# Altium schematic symbol library kmilo17pet-NSC_LDO.SchLib: 2675 symbols (part 61 of 65)
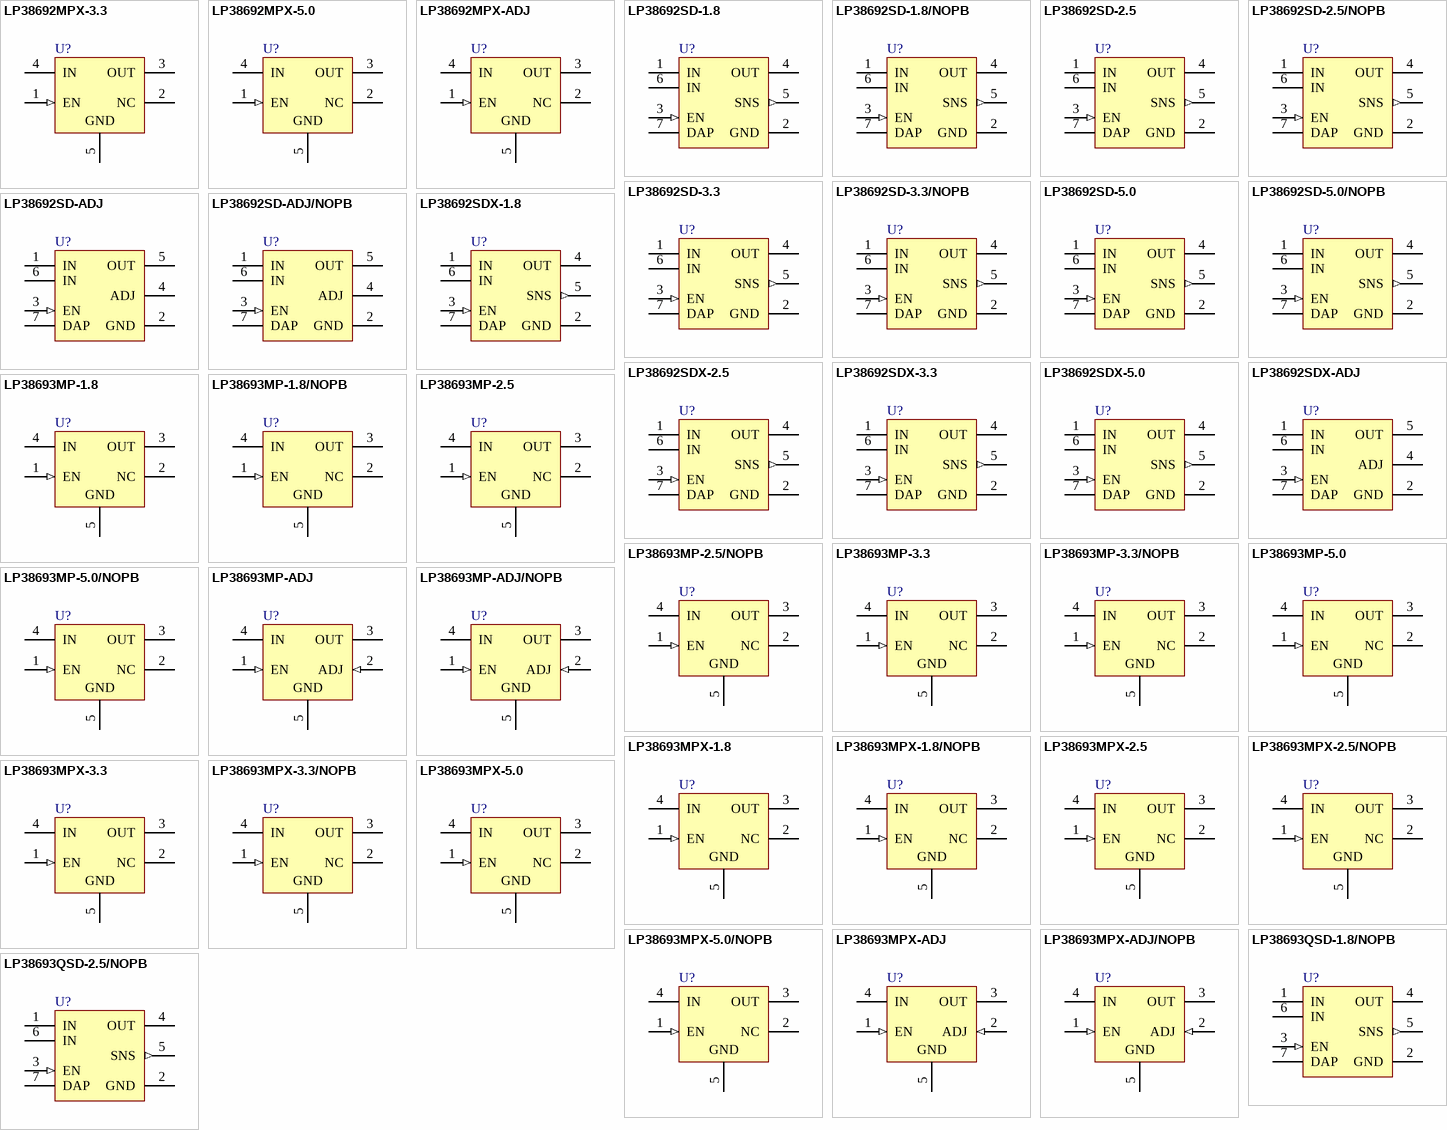
[diagram p127: symbols LP38692MPX-3.3 to LP38693QSD-2.5/NOPB]

## LP38693MPX-1.8
designator U?
500mA Low Dropout CMOS Linear Regulators Stable with Ceramic Output Capacitors, 5-pin SOT-223, 2000 Reel; PartNumber: LP38693MPX-1.8; Manufacturer: National Semiconductor; PackageTopMarking: XYTT*LJVB; PowerWise: Y; CompType: LDO IC; DatasheetVersion: Jun-2011; PackageVersion: revA, Jan-2000; PackageReference: MP05A; PackageDescription: Moldec SOT-223, 6.50 x 3.56 x 1.6mm Body, 5 Lead, 1.5mm Pitch; RoHS: N; PinCount: 5; High-Reliability: Y; Code_JEDEC: TO-261-AB; Code_IPC: SOT223-5; ComponentLink1Description: Manufacturer URL; ComponentLink1URL: http://www.national.com/; ComponentLink2Description: LP38693 Datasheet; ComponentLink2URL: http://www.national.com/ds/LP/LP38691.pdf; ComponentLink3Description: LP38693 Web Page; ComponentLink3URL: http://www.national.com/pf/LP/LP38693.html; ComponentLink4Description: MP05A Package Page; ComponentLink4URL: http://www.national.com/packaging/folders/mp05a.html
footprint MP05A_N (SOT223, 5-Leads, Body 6.5x3.5mm, Pitch 1.5mm, Lead Span 7mm, IPC Medium Density)
footprint MP05A_L (SOT223, 5-Leads, Body 6.5x3.5mm, Pitch 1.5mm, Lead Span 7mm, IPC High Density)
footprint MP05A_M (SOT223, 5-Leads, Body 6.5x3.5mm, Pitch 1.5mm, Lead Span 7mm, IPC Low Density)
pins: 1 EN (in), 2 NC, 3 OUT (power), 4 IN (power), 5 GND (power)

## LP38693MPX-1.8/NOPB
designator U?
500mA Low Dropout CMOS Linear Regulators Stable with Ceramic Output Capacitors, 5-pin SOT-223, 2000 Reel; PartNumber: LP38693MPX-1.8/NOPB; Manufacturer: National Semiconductor; PowerWise: Y; CompType: LDO IC; DatasheetVersion: Jun-2011; PackageVersion: revA, Jan-2000; PackageReference: MP05A; PackageDescription: Moldec SOT-223, 6.50 x 3.56 x 1.6mm Body, 5 Lead, 1.5mm Pitch; RoHS: Y; PinCount: 5; High-Reliability: Y; Code_JEDEC: TO-261-AB; Code_IPC: SOT223-5; ComponentLink1Description: Manufacturer URL; ComponentLink1URL: http://www.national.com/; ComponentLink2Description: LP38693 Datasheet; ComponentLink2URL: http://www.national.com/ds/LP/LP38691.pdf; ComponentLink3Description: LP38693 Web Page; ComponentLink3URL: http://www.national.com/pf/LP/LP38693.html; ComponentLink4Description: MP05A Package Page; ComponentLink4URL: http://www.national.com/packaging/folders/mp05a.html
footprint MP05A_N (SOT223, 5-Leads, Body 6.5x3.5mm, Pitch 1.5mm, Lead Span 7mm, IPC Medium Density)
footprint MP05A_L (SOT223, 5-Leads, Body 6.5x3.5mm, Pitch 1.5mm, Lead Span 7mm, IPC High Density)
footprint MP05A_M (SOT223, 5-Leads, Body 6.5x3.5mm, Pitch 1.5mm, Lead Span 7mm, IPC Low Density)
pins: 1 EN (in), 2 NC, 3 OUT (power), 4 IN (power), 5 GND (power)

## LP38693MPX-2.5
designator U?
500mA Low Dropout CMOS Linear Regulators Stable with Ceramic Output Capacitors, 5-pin SOT-223, 2000 Reel; PartNumber: LP38693MPX-2.5; Manufacturer: National Semiconductor; PackageTopMarking: XYTT*LJXB; PowerWise: Y; CompType: LDO IC; DatasheetVersion: Jun-2011; PackageVersion: revA, Jan-2000; PackageReference: MP05A; PackageDescription: Moldec SOT-223, 6.50 x 3.56 x 1.6mm Body, 5 Lead, 1.5mm Pitch; RoHS: N; PinCount: 5; High-Reliability: Y; Code_JEDEC: TO-261-AB; Code_IPC: SOT223-5; ComponentLink1Description: Manufacturer URL; ComponentLink1URL: http://www.national.com/; ComponentLink2Description: LP38693 Datasheet; ComponentLink2URL: http://www.national.com/ds/LP/LP38691.pdf; ComponentLink3Description: LP38693 Web Page; ComponentLink3URL: http://www.national.com/pf/LP/LP38693.html; ComponentLink4Description: MP05A Package Page; ComponentLink4URL: http://www.national.com/packaging/folders/mp05a.html
footprint MP05A_N (SOT223, 5-Leads, Body 6.5x3.5mm, Pitch 1.5mm, Lead Span 7mm, IPC Medium Density)
footprint MP05A_L (SOT223, 5-Leads, Body 6.5x3.5mm, Pitch 1.5mm, Lead Span 7mm, IPC High Density)
footprint MP05A_M (SOT223, 5-Leads, Body 6.5x3.5mm, Pitch 1.5mm, Lead Span 7mm, IPC Low Density)
pins: 1 EN (in), 2 NC, 3 OUT (power), 4 IN (power), 5 GND (power)

## LP38693MPX-2.5/NOPB
designator U?
500mA Low Dropout CMOS Linear Regulators Stable with Ceramic Output Capacitors, 5-pin SOT-223, 2000 Reel; PartNumber: LP38693MPX-2.5/NOPB; Manufacturer: National Semiconductor; PowerWise: Y; CompType: LDO IC; DatasheetVersion: Jun-2011; PackageVersion: revA, Jan-2000; PackageReference: MP05A; PackageDescription: Moldec SOT-223, 6.50 x 3.56 x 1.6mm Body, 5 Lead, 1.5mm Pitch; RoHS: Y; PinCount: 5; High-Reliability: Y; Code_JEDEC: TO-261-AB; Code_IPC: SOT223-5; ComponentLink1Description: Manufacturer URL; ComponentLink1URL: http://www.national.com/; ComponentLink2Description: LP38693 Datasheet; ComponentLink2URL: http://www.national.com/ds/LP/LP38691.pdf; ComponentLink3Description: LP38693 Web Page; ComponentLink3URL: http://www.national.com/pf/LP/LP38693.html; ComponentLink4Description: MP05A Package Page; ComponentLink4URL: http://www.national.com/packaging/folders/mp05a.html
footprint MP05A_N (SOT223, 5-Leads, Body 6.5x3.5mm, Pitch 1.5mm, Lead Span 7mm, IPC Medium Density)
footprint MP05A_L (SOT223, 5-Leads, Body 6.5x3.5mm, Pitch 1.5mm, Lead Span 7mm, IPC High Density)
footprint MP05A_M (SOT223, 5-Leads, Body 6.5x3.5mm, Pitch 1.5mm, Lead Span 7mm, IPC Low Density)
pins: 1 EN (in), 2 NC, 3 OUT (power), 4 IN (power), 5 GND (power)

## LP38693MPX-3.3
designator U?
500mA Low Dropout CMOS Linear Regulators Stable with Ceramic Output Capacitors, 5-pin SOT-223, 2000 Reel; PartNumber: LP38693MPX-3.3; Manufacturer: National Semiconductor; PackageTopMarking: XYTT*LJYB; PowerWise: Y; CompType: LDO IC; DatasheetVersion: Jun-2011; PackageVersion: revA, Jan-2000; PackageReference: MP05A; PackageDescription: Moldec SOT-223, 6.50 x 3.56 x 1.6mm Body, 5 Lead, 1.5mm Pitch; RoHS: N; PinCount: 5; High-Reliability: Y; Code_JEDEC: TO-261-AB; Code_IPC: SOT223-5; ComponentLink1Description: Manufacturer URL; ComponentLink1URL: http://www.national.com/; ComponentLink2Description: LP38693 Datasheet; ComponentLink2URL: http://www.national.com/ds/LP/LP38691.pdf; ComponentLink3Description: LP38693 Web Page; ComponentLink3URL: http://www.national.com/pf/LP/LP38693.html; ComponentLink4Description: MP05A Package Page; ComponentLink4URL: http://www.national.com/packaging/folders/mp05a.html
footprint MP05A_N (SOT223, 5-Leads, Body 6.5x3.5mm, Pitch 1.5mm, Lead Span 7mm, IPC Medium Density)
footprint MP05A_L (SOT223, 5-Leads, Body 6.5x3.5mm, Pitch 1.5mm, Lead Span 7mm, IPC High Density)
footprint MP05A_M (SOT223, 5-Leads, Body 6.5x3.5mm, Pitch 1.5mm, Lead Span 7mm, IPC Low Density)
pins: 1 EN (in), 2 NC, 3 OUT (power), 4 IN (power), 5 GND (power)

## LP38693MPX-3.3/NOPB
designator U?
500mA Low Dropout CMOS Linear Regulators Stable with Ceramic Output Capacitors, 5-pin SOT-223, 2000 Reel; PartNumber: LP38693MPX-3.3/NOPB; Manufacturer: National Semiconductor; PowerWise: Y; CompType: LDO IC; DatasheetVersion: Jun-2011; PackageVersion: revA, Jan-2000; PackageReference: MP05A; PackageDescription: Moldec SOT-223, 6.50 x 3.56 x 1.6mm Body, 5 Lead, 1.5mm Pitch; RoHS: Y; PinCount: 5; High-Reliability: Y; Code_JEDEC: TO-261-AB; Code_IPC: SOT223-5; ComponentLink1Description: Manufacturer URL; ComponentLink1URL: http://www.national.com/; ComponentLink2Description: LP38693 Datasheet; ComponentLink2URL: http://www.national.com/ds/LP/LP38691.pdf; ComponentLink3Description: LP38693 Web Page; ComponentLink3URL: http://www.national.com/pf/LP/LP38693.html; ComponentLink4Description: MP05A Package Page; ComponentLink4URL: http://www.national.com/packaging/folders/mp05a.html
footprint MP05A_N (SOT223, 5-Leads, Body 6.5x3.5mm, Pitch 1.5mm, Lead Span 7mm, IPC Medium Density)
footprint MP05A_L (SOT223, 5-Leads, Body 6.5x3.5mm, Pitch 1.5mm, Lead Span 7mm, IPC High Density)
footprint MP05A_M (SOT223, 5-Leads, Body 6.5x3.5mm, Pitch 1.5mm, Lead Span 7mm, IPC Low Density)
pins: 1 EN (in), 2 NC, 3 OUT (power), 4 IN (power), 5 GND (power)

## LP38693MPX-5.0
designator U?
500mA Low Dropout CMOS Linear Regulators Stable with Ceramic Output Capacitors, 5-pin SOT-223, 2000 Reel; PartNumber: LP38693MPX-5.0; Manufacturer: National Semiconductor; PackageTopMarking: XYTT*LJZB; PowerWise: N; CompType: LDO IC; High-Reliability: Y; DatasheetVersion: Jun-2011; PackageVersion: revA, Jan-2000; PackageReference: MP05A; PackageDescription: Moldec SOT-223, 6.50 x 3.56 x 1.6mm Body, 5 Lead, 1.5mm Pitch; RoHS: N; PinCount: 5; Code_JEDEC: TO-261-AB; Code_IPC: SOT223-5; ComponentLink1Description: Manufacturer URL; ComponentLink1URL: http://www.national.com/; ComponentLink2Description: LP38693 Datasheet; ComponentLink2URL: http://www.national.com/ds/LP/LP38691.pdf; ComponentLink3Description: LP38693 Web Page; ComponentLink3URL: http://www.national.com/pf/LP/LP38693.html; ComponentLink4Description: MP05A Package Page; ComponentLink4URL: http://www.national.com/packaging/folders/mp05a.html
footprint MP05A_N (SOT223, 5-Leads, Body 6.5x3.5mm, Pitch 1.5mm, Lead Span 7mm, IPC Medium Density)
footprint MP05A_L (SOT223, 5-Leads, Body 6.5x3.5mm, Pitch 1.5mm, Lead Span 7mm, IPC High Density)
footprint MP05A_M (SOT223, 5-Leads, Body 6.5x3.5mm, Pitch 1.5mm, Lead Span 7mm, IPC Low Density)
pins: 1 EN (in), 2 NC, 3 OUT (power), 4 IN (power), 5 GND (power)

## LP38693MPX-5.0/NOPB
designator U?
500mA Low Dropout CMOS Linear Regulators Stable with Ceramic Output Capacitors, 5-pin SOT-223, Pb-Free, 2000 Reel; PartNumber: LP38693MPX-5.0/NOPB; Manufacturer: National Semiconductor; PackageTopMarking: XYTT*LJZB; PowerWise: N; CompType: LDO IC; High-Reliability: Y; DatasheetVersion: Jun-2011; PackageVersion: revA, Jan-2000; PackageReference: MP05A; PackageDescription: Moldec SOT-223, 6.50 x 3.56 x 1.6mm Body, 5 Lead, 1.5mm Pitch; RoHS: Y; PinCount: 5; Code_JEDEC: TO-261-AB; Code_IPC: SOT223-5; ComponentLink1Description: Manufacturer URL; ComponentLink1URL: http://www.national.com/; ComponentLink2Description: LP38693 Datasheet; ComponentLink2URL: http://www.national.com/ds/LP/LP38691.pdf; ComponentLink3Description: LP38693 Web Page; ComponentLink3URL: http://www.national.com/pf/LP/LP38693.html; ComponentLink4Description: MP05A Package Page; ComponentLink4URL: http://www.national.com/packaging/folders/mp05a.html
footprint MP05A_N (SOT223, 5-Leads, Body 6.5x3.5mm, Pitch 1.5mm, Lead Span 7mm, IPC Medium Density)
footprint MP05A_L (SOT223, 5-Leads, Body 6.5x3.5mm, Pitch 1.5mm, Lead Span 7mm, IPC High Density)
footprint MP05A_M (SOT223, 5-Leads, Body 6.5x3.5mm, Pitch 1.5mm, Lead Span 7mm, IPC Low Density)
pins: 1 EN (in), 2 NC, 3 OUT (power), 4 IN (power), 5 GND (power)

## LP38693MPX-ADJ
designator U?
500mA Low Dropout CMOS Linear Regulators with Adjustable Output Stable with Ceramic Output Capacitors, 5-pin SOT-223, 2000 Reel; PartNumber: LP38693MPX-ADJ; Manufacturer: National Semiconductor; PackageTopMarking: XYTT*LJUB; PowerWise: Y; CompType: LDO IC; DatasheetVersion: Jun-2011; PackageVersion: revA, Jan-2000; PackageReference: MP05A; PackageDescription: Moldec SOT-223, 6.50 x 3.56 x 1.6mm Body, 5 Lead, 1.5mm Pitch; RoHS: N; PinCount: 5; High-Reliability: Y; Code_JEDEC: TO-261-AB; Code_IPC: SOT223-5; ComponentLink1Description: Manufacturer URL; ComponentLink1URL: http://www.national.com/; ComponentLink2Description: LP38693 Datasheet; ComponentLink2URL: http://www.national.com/ds/LP/LP38691-ADJ.pdf; ComponentLink3Description: LP38693 Web Page; ComponentLink3URL: http://www.national.com/pf/LP/LP38693.html; ComponentLink4Description: MP05A Package Page; ComponentLink4URL: http://www.national.com/packaging/folders/mp05a.html
footprint MP05A_N (SOT223, 5-Leads, Body 6.5x3.5mm, Pitch 1.5mm, Lead Span 7mm, IPC Medium Density)
footprint MP05A_L (SOT223, 5-Leads, Body 6.5x3.5mm, Pitch 1.5mm, Lead Span 7mm, IPC High Density)
footprint MP05A_M (SOT223, 5-Leads, Body 6.5x3.5mm, Pitch 1.5mm, Lead Span 7mm, IPC Low Density)
pins: 1 EN (in), 2 ADJ (in), 3 OUT (power), 4 IN (power), 5 GND (power)

## LP38693MPX-ADJ/NOPB
designator U?
500mA Low Dropout CMOS Linear Regulators with Adjustable Output Stable with Ceramic Output Capacitors, 5-pin SOT-223, 2000 Reel; PartNumber: LP38693MPX-ADJ/NOPB; Manufacturer: National Semiconductor; PowerWise: Y; CompType: LDO IC; DatasheetVersion: Jun-2011; PackageVersion: revA, Jan-2000; PackageReference: MP05A; PackageDescription: Moldec SOT-223, 6.50 x 3.56 x 1.6mm Body, 5 Lead, 1.5mm Pitch; RoHS: Y; PinCount: 5; High-Reliability: Y; Code_JEDEC: TO-261-AB; Code_IPC: SOT223-5; ComponentLink1Description: Manufacturer URL; ComponentLink1URL: http://www.national.com/; ComponentLink2Description: LP38693 Datasheet; ComponentLink2URL: http://www.national.com/ds/LP/LP38691-ADJ.pdf; ComponentLink3Description: LP38693 Web Page; ComponentLink3URL: http://www.national.com/pf/LP/LP38693.html; ComponentLink4Description: MP05A Package Page; ComponentLink4URL: http://www.national.com/packaging/folders/mp05a.html
footprint MP05A_N (SOT223, 5-Leads, Body 6.5x3.5mm, Pitch 1.5mm, Lead Span 7mm, IPC Medium Density)
footprint MP05A_L (SOT223, 5-Leads, Body 6.5x3.5mm, Pitch 1.5mm, Lead Span 7mm, IPC High Density)
footprint MP05A_M (SOT223, 5-Leads, Body 6.5x3.5mm, Pitch 1.5mm, Lead Span 7mm, IPC Low Density)
pins: 1 EN (in), 2 ADJ (in), 3 OUT (power), 4 IN (power), 5 GND (power)

## LP38693QSD-1.8/NOPB
designator U?
500mA Low Dropout CMOS Linear Regulators Stable with Ceramic Output Capacitors, 6-pin LLP, 1000 Reel; PartNumber: LP38693QSD-1.8/NOPB; Manufacturer: National Semiconductor; PackageTopMarking: ZXYTT*L260B; PowerWise: N; CompType: LDO IC; High-Reliability: Y; DatasheetVersion: Jun-2011; PackageVersion: revA, Jul-2003; PackageReference: SDE06A; PackageDescription: LLP, Plastic, Dual, 3 x 3 x 0.8mm Body, 6 Lead, 0.95mm Pitch, No Pullback; RoHS: Y; PinCount: 6; ComponentLink1Description: Manufacturer URL; ComponentLink1URL: http://www.national.com/; ComponentLink2Description: LP38693 Datasheet; ComponentLink2URL: http://www.national.com/ds/LP/LP38691.pdf; ComponentLink3Description: LP38693 Web Page; ComponentLink3URL: http://www.national.com/pf/LP/LP38693.html; ComponentLink4Description: SDE06A Package Page; ComponentLink4URL: http://www.national.com/packaging/folders/sde06a.html
footprint SDE06A_full (SON, 6-Leads, Body 3x3 mm, Pitch 0.95mm, Full Paste, NSC Recommended)
footprint SDE06A_quad (SON, 6-Leads, Body 3x3 mm, Pitch 0.95mm, Quad Paste, NSC Recommended)
pins: 1 IN (power), 2 GND (power), 3 EN (in), 4 OUT (power), 5 SNS (out), 6 IN (power), 7 DAP (power)

## LP38693QSD-2.5/NOPB
designator U?
500mA Low Dropout CMOS Linear Regulators Stable with Ceramic Output Capacitors, 6-pin LLP, 1000 Reel; PartNumber: LP38693QSD-2.5/NOPB; Manufacturer: National Semiconductor; PackageTopMarking: ZXYTT*L261B; PowerWise: N; CompType: LDO IC; High-Reliability: Y; DatasheetVersion: Jun-2011; PackageVersion: revA, Jul-2003; PackageReference: SDE06A; PackageDescription: LLP, Plastic, Dual, 3 x 3 x 0.8mm Body, 6 Lead, 0.95mm Pitch, No Pullback; RoHS: Y; PinCount: 6; ComponentLink1Description: Manufacturer URL; ComponentLink1URL: http://www.national.com/; ComponentLink2Description: LP38693 Datasheet; ComponentLink2URL: http://www.national.com/ds/LP/LP38691.pdf; ComponentLink3Description: LP38693 Web Page; ComponentLink3URL: http://www.national.com/pf/LP/LP38693.html; ComponentLink4Description: SDE06A Package Page; ComponentLink4URL: http://www.national.com/packaging/folders/sde06a.html
footprint SDE06A_full (SON, 6-Leads, Body 3x3 mm, Pitch 0.95mm, Full Paste, NSC Recommended)
footprint SDE06A_quad (SON, 6-Leads, Body 3x3 mm, Pitch 0.95mm, Quad Paste, NSC Recommended)
pins: 1 IN (power), 2 GND (power), 3 EN (in), 4 OUT (power), 5 SNS (out), 6 IN (power), 7 DAP (power)

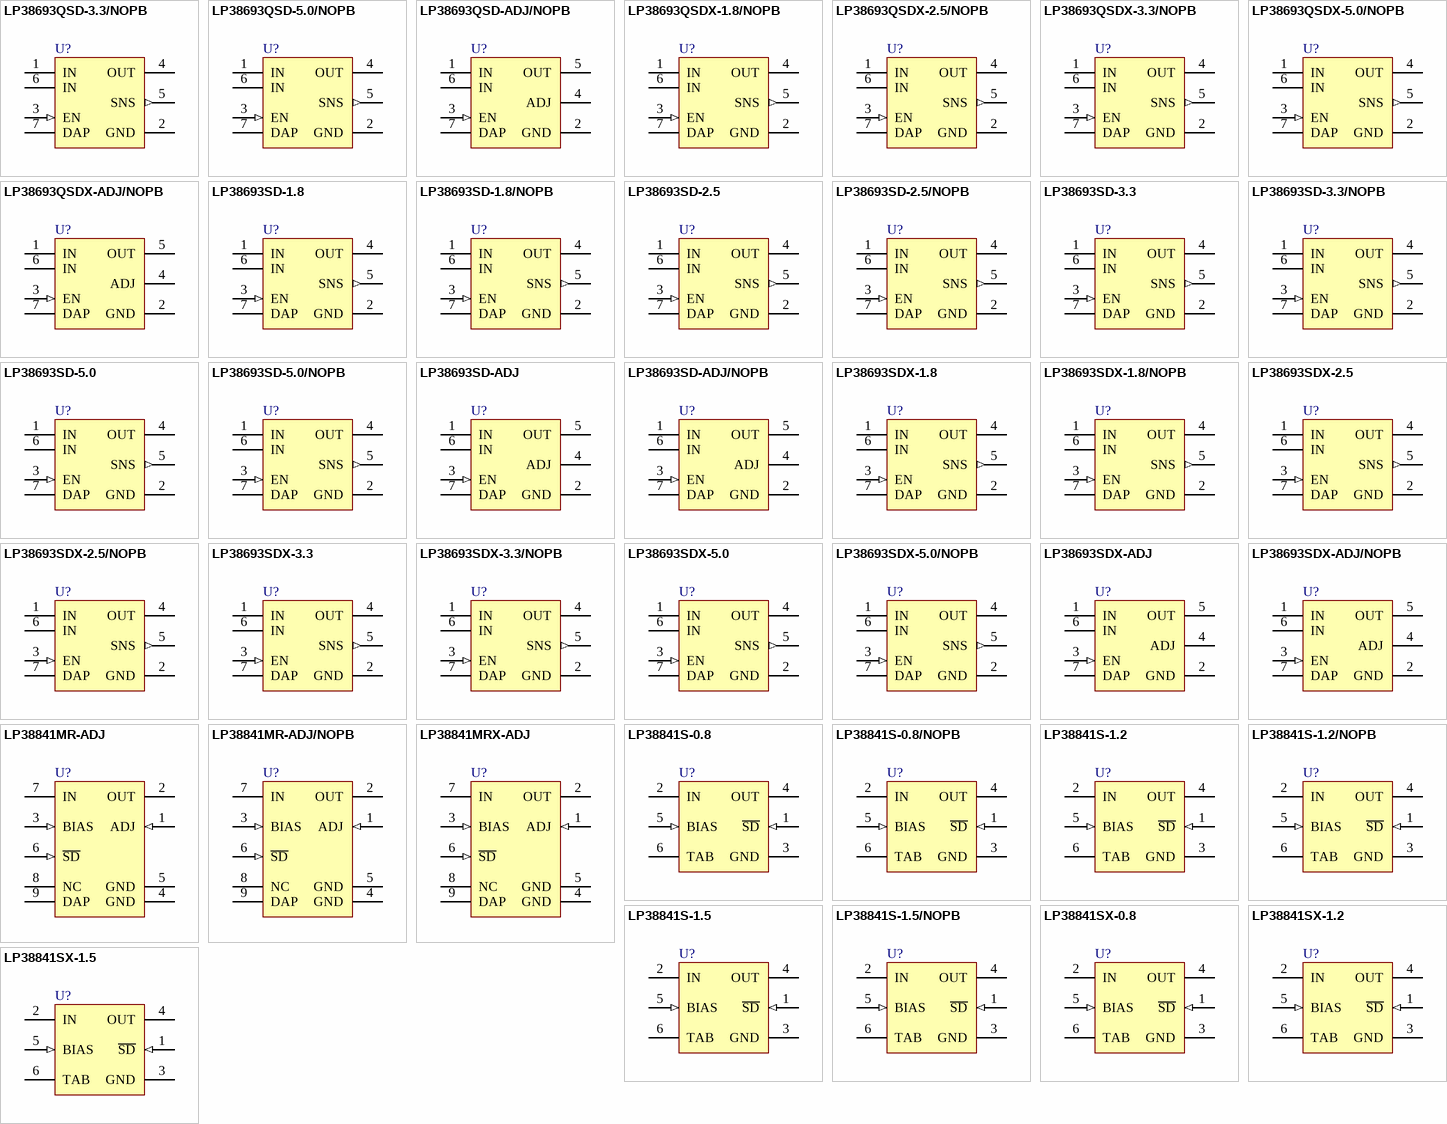
[diagram p63: symbols LP38693QSD-3.3/NOPB to LP38841SX-1.5]

## LP38693QSD-3.3/NOPB
designator U?
500mA Low Dropout CMOS Linear Regulators Stable with Ceramic Output Capacitors, 6-pin LLP, 1000 Reel; PartNumber: LP38693QSD-3.3/NOPB; Manufacturer: National Semiconductor; PackageTopMarking: ZXYTT*L262B; PowerWise: N; CompType: LDO IC; High-Reliability: Y; DatasheetVersion: Jun-2011; PackageVersion: revA, Jul-2003; PackageReference: SDE06A; PackageDescription: LLP, Plastic, Dual, 3 x 3 x 0.8mm Body, 6 Lead, 0.95mm Pitch, No Pullback; RoHS: Y; PinCount: 6; ComponentLink1Description: Manufacturer URL; ComponentLink1URL: http://www.national.com/; ComponentLink2Description: LP38693 Datasheet; ComponentLink2URL: http://www.national.com/ds/LP/LP38691.pdf; ComponentLink3Description: LP38693 Web Page; ComponentLink3URL: http://www.national.com/pf/LP/LP38693.html; ComponentLink4Description: SDE06A Package Page; ComponentLink4URL: http://www.national.com/packaging/folders/sde06a.html
footprint SDE06A_full (SON, 6-Leads, Body 3x3 mm, Pitch 0.95mm, Full Paste, NSC Recommended)
footprint SDE06A_quad (SON, 6-Leads, Body 3x3 mm, Pitch 0.95mm, Quad Paste, NSC Recommended)
pins: 1 IN (power), 2 GND (power), 3 EN (in), 4 OUT (power), 5 SNS (out), 6 IN (power), 7 DAP (power)

## LP38693QSD-5.0/NOPB
designator U?
500mA Low Dropout CMOS Linear Regulators Stable with Ceramic Output Capacitors, 6-pin LLP, 1000 Reel; PartNumber: LP38693QSD-5.0/NOPB; Manufacturer: National Semiconductor; PackageTopMarking: ZXYTT*L263B; PowerWise: N; CompType: LDO IC; High-Reliability: Y; DatasheetVersion: Jun-2011; PackageVersion: revA, Jul-2003; PackageReference: SDE06A; PackageDescription: LLP, Plastic, Dual, 3 x 3 x 0.8mm Body, 6 Lead, 0.95mm Pitch, No Pullback; RoHS: Y; PinCount: 6; ComponentLink1Description: Manufacturer URL; ComponentLink1URL: http://www.national.com/; ComponentLink2Description: LP38693 Datasheet; ComponentLink2URL: http://www.national.com/ds/LP/LP38691.pdf; ComponentLink3Description: LP38693 Web Page; ComponentLink3URL: http://www.national.com/pf/LP/LP38693.html; ComponentLink4Description: SDE06A Package Page; ComponentLink4URL: http://www.national.com/packaging/folders/sde06a.html
footprint SDE06A_full (SON, 6-Leads, Body 3x3 mm, Pitch 0.95mm, Full Paste, NSC Recommended)
footprint SDE06A_quad (SON, 6-Leads, Body 3x3 mm, Pitch 0.95mm, Quad Paste, NSC Recommended)
pins: 1 IN (power), 2 GND (power), 3 EN (in), 4 OUT (power), 5 SNS (out), 6 IN (power), 7 DAP (power)

## LP38693QSD-ADJ/NOPB
designator U?
500mA Low Dropout CMOS Linear Regulators with Adjustable Output Stable with Ceramic Output Capacitors, 6-pin LLP, 1000 Reel; PartNumber: LP38693QSD-ADJ/NOPB; Manufacturer: National Semiconductor; PackageTopMarking: ZXYTT*LLRB; PowerWise: N; CompType: LDO IC; High-Reliability: Y; DatasheetVersion: Jun-2011; PackageVersion: revA, Jul-2003; PackageReference: SDE06A; PackageDescription: LLP, Plastic, Dual, 3 x 3 x 0.8mm Body, 6 Lead, 0.95mm Pitch, No Pullback; RoHS: Y; PinCount: 6; ComponentLink1Description: Manufacturer URL; ComponentLink1URL: http://www.national.com/; ComponentLink2Description: LP38693 Datasheet; ComponentLink2URL: http://www.national.com/ds/LP/LP38691-ADJ.pdf; ComponentLink3Description: LP38693 Web Page; ComponentLink3URL: http://www.national.com/pf/LP/LP38693.html; ComponentLink4Description: SDE06A Package Page; ComponentLink4URL: http://www.national.com/packaging/folders/sde06a.html
footprint SDE06A_full (SON, 6-Leads, Body 3x3 mm, Pitch 0.95mm, Full Paste, NSC Recommended)
footprint SDE06A_quad (SON, 6-Leads, Body 3x3 mm, Pitch 0.95mm, Quad Paste, NSC Recommended)
pins: 1 IN (power), 2 GND (power), 3 EN (in), 4 ADJ, 5 OUT (power), 6 IN (power), 7 DAP (power)

## LP38693QSDX-1.8/NOPB
designator U?
500mA Low Dropout CMOS Linear Regulators Stable with Ceramic Output Capacitors, 6-pin LLP, 4500 Reel; PartNumber: LP38693QSDX-1.8/NOPB; Manufacturer: National Semiconductor; PackageTopMarking: ZXYTT*L260B; PowerWise: N; CompType: LDO IC; High-Reliability: Y; DatasheetVersion: Jun-2011; PackageVersion: revA, Jul-2003; PackageReference: SDE06A; PackageDescription: LLP, Plastic, Dual, 3 x 3 x 0.8mm Body, 6 Lead, 0.95mm Pitch, No Pullback; RoHS: Y; PinCount: 6; ComponentLink1Description: Manufacturer URL; ComponentLink1URL: http://www.national.com/; ComponentLink2Description: LP38693 Datasheet; ComponentLink2URL: http://www.national.com/ds/LP/LP38691.pdf; ComponentLink3Description: LP38693 Web Page; ComponentLink3URL: http://www.national.com/pf/LP/LP38693.html; ComponentLink4Description: SDE06A Package Page; ComponentLink4URL: http://www.national.com/packaging/folders/sde06a.html
footprint SDE06A_full (SON, 6-Leads, Body 3x3 mm, Pitch 0.95mm, Full Paste, NSC Recommended)
footprint SDE06A_quad (SON, 6-Leads, Body 3x3 mm, Pitch 0.95mm, Quad Paste, NSC Recommended)
pins: 1 IN (power), 2 GND (power), 3 EN (in), 4 OUT (power), 5 SNS (out), 6 IN (power), 7 DAP (power)

## LP38693QSDX-2.5/NOPB
designator U?
500mA Low Dropout CMOS Linear Regulators Stable with Ceramic Output Capacitors, 6-pin LLP, 4500 Reel; PartNumber: LP38693QSDX-2.5/NOPB; Manufacturer: National Semiconductor; PackageTopMarking: ZXYTT*L261B; PowerWise: N; CompType: LDO IC; High-Reliability: Y; DatasheetVersion: Jun-2011; PackageVersion: revA, Jul-2003; PackageReference: SDE06A; PackageDescription: LLP, Plastic, Dual, 3 x 3 x 0.8mm Body, 6 Lead, 0.95mm Pitch, No Pullback; RoHS: Y; PinCount: 6; ComponentLink1Description: Manufacturer URL; ComponentLink1URL: http://www.national.com/; ComponentLink2Description: LP38693 Datasheet; ComponentLink2URL: http://www.national.com/ds/LP/LP38691.pdf; ComponentLink3Description: LP38693 Web Page; ComponentLink3URL: http://www.national.com/pf/LP/LP38693.html; ComponentLink4Description: SDE06A Package Page; ComponentLink4URL: http://www.national.com/packaging/folders/sde06a.html
footprint SDE06A_full (SON, 6-Leads, Body 3x3 mm, Pitch 0.95mm, Full Paste, NSC Recommended)
footprint SDE06A_quad (SON, 6-Leads, Body 3x3 mm, Pitch 0.95mm, Quad Paste, NSC Recommended)
pins: 1 IN (power), 2 GND (power), 3 EN (in), 4 OUT (power), 5 SNS (out), 6 IN (power), 7 DAP (power)

## LP38693QSDX-3.3/NOPB
designator U?
500mA Low Dropout CMOS Linear Regulators Stable with Ceramic Output Capacitors, 6-pin LLP, 4500 Reel; PartNumber: LP38693QSDX-3.3/NOPB; Manufacturer: National Semiconductor; PackageTopMarking: ZXYTT*L262B; PowerWise: N; CompType: LDO IC; High-Reliability: Y; DatasheetVersion: Jun-2011; PackageVersion: revA, Jul-2003; PackageReference: SDE06A; PackageDescription: LLP, Plastic, Dual, 3 x 3 x 0.8mm Body, 6 Lead, 0.95mm Pitch, No Pullback; RoHS: Y; PinCount: 6; ComponentLink1Description: Manufacturer URL; ComponentLink1URL: http://www.national.com/; ComponentLink2Description: LP38693 Datasheet; ComponentLink2URL: http://www.national.com/ds/LP/LP38691.pdf; ComponentLink3Description: LP38693 Web Page; ComponentLink3URL: http://www.national.com/pf/LP/LP38693.html; ComponentLink4Description: SDE06A Package Page; ComponentLink4URL: http://www.national.com/packaging/folders/sde06a.html
footprint SDE06A_full (SON, 6-Leads, Body 3x3 mm, Pitch 0.95mm, Full Paste, NSC Recommended)
footprint SDE06A_quad (SON, 6-Leads, Body 3x3 mm, Pitch 0.95mm, Quad Paste, NSC Recommended)
pins: 1 IN (power), 2 GND (power), 3 EN (in), 4 OUT (power), 5 SNS (out), 6 IN (power), 7 DAP (power)

## LP38693QSDX-5.0/NOPB
designator U?
500mA Low Dropout CMOS Linear Regulators Stable with Ceramic Output Capacitors, 6-pin LLP, 4500 Reel; PartNumber: LP38693QSDX-5.0/NOPB; Manufacturer: National Semiconductor; PackageTopMarking: ZXYTT*L263B; PowerWise: N; CompType: LDO IC; High-Reliability: Y; DatasheetVersion: Jun-2011; PackageVersion: revA, Jul-2003; PackageReference: SDE06A; PackageDescription: LLP, Plastic, Dual, 3 x 3 x 0.8mm Body, 6 Lead, 0.95mm Pitch, No Pullback; RoHS: Y; PinCount: 6; ComponentLink1Description: Manufacturer URL; ComponentLink1URL: http://www.national.com/; ComponentLink2Description: LP38693 Datasheet; ComponentLink2URL: http://www.national.com/ds/LP/LP38691.pdf; ComponentLink3Description: LP38693 Web Page; ComponentLink3URL: http://www.national.com/pf/LP/LP38693.html; ComponentLink4Description: SDE06A Package Page; ComponentLink4URL: http://www.national.com/packaging/folders/sde06a.html
footprint SDE06A_full (SON, 6-Leads, Body 3x3 mm, Pitch 0.95mm, Full Paste, NSC Recommended)
footprint SDE06A_quad (SON, 6-Leads, Body 3x3 mm, Pitch 0.95mm, Quad Paste, NSC Recommended)
pins: 1 IN (power), 2 GND (power), 3 EN (in), 4 OUT (power), 5 SNS (out), 6 IN (power), 7 DAP (power)

## LP38693QSDX-ADJ/NOPB
designator U?
500mA Low Dropout CMOS Linear Regulators with Adjustable Output Stable with Ceramic Output Capacitors, 6-pin LLP, 4500 Reel; PartNumber: LP38693QSDX-ADJ/NOPB; Manufacturer: National Semiconductor; PackageTopMarking: ZXYTT*LLRB; PowerWise: N; CompType: LDO IC; High-Reliability: Y; DatasheetVersion: Jun-2011; PackageVersion: revA, Jul-2003; PackageReference: SDE06A; PackageDescription: LLP, Plastic, Dual, 3 x 3 x 0.8mm Body, 6 Lead, 0.95mm Pitch, No Pullback; RoHS: Y; PinCount: 6; ComponentLink1Description: Manufacturer URL; ComponentLink1URL: http://www.national.com/; ComponentLink2Description: LP38693 Datasheet; ComponentLink2URL: http://www.national.com/ds/LP/LP38691-ADJ.pdf; ComponentLink3Description: LP38693 Web Page; ComponentLink3URL: http://www.national.com/pf/LP/LP38693.html; ComponentLink4Description: SDE06A Package Page; ComponentLink4URL: http://www.national.com/packaging/folders/sde06a.html
footprint SDE06A_full (SON, 6-Leads, Body 3x3 mm, Pitch 0.95mm, Full Paste, NSC Recommended)
footprint SDE06A_quad (SON, 6-Leads, Body 3x3 mm, Pitch 0.95mm, Quad Paste, NSC Recommended)
pins: 1 IN (power), 2 GND (power), 3 EN (in), 4 ADJ, 5 OUT (power), 6 IN (power), 7 DAP (power)

## LP38693SD-1.8
designator U?
500mA Low Dropout CMOS Linear Regulators, 6-pin LLP, 1000 Reel; PartNumber: LP38693SD-1.8; Manufacturer: National Semiconductor; PackageTopMarking: ZXYTT*L128B; PowerWise: Y; CompType: LDO IC; DatasheetVersion: Jun-2011; PackageVersion: revA, Jul-2003; PackageReference: SDE06A; PackageDescription: LLP, Plastic, Dual, 3 x 3 x 0.8mm Body, 6 Lead, 0.95mm Pitch, No Pullback; RoHS: N; PinCount: 6; High-Reliability: Y; ComponentLink1Description: Manufacturer URL; ComponentLink1URL: http://www.national.com/; ComponentLink2Description: LP38693 Datasheet; ComponentLink2URL: http://www.national.com/ds/LP/LP38691.pdf; ComponentLink3Description: LP38693 Web Page; ComponentLink3URL: http://www.national.com/pf/LP/LP38693.html; ComponentLink4Description: SDE06A Package Page; ComponentLink4URL: http://www.national.com/packaging/folders/sde06a.html
footprint SDE06A_full (SON, 6-Leads, Body 3x3 mm, Pitch 0.95mm, Full Paste, NSC Recommended)
footprint SDE06A_quad (SON, 6-Leads, Body 3x3 mm, Pitch 0.95mm, Quad Paste, NSC Recommended)
pins: 1 IN (power), 2 GND (power), 3 EN (in), 4 OUT (power), 5 SNS (out), 6 IN (power), 7 DAP (power)

## LP38693SD-1.8/NOPB
designator U?
500mA Low Dropout CMOS Linear Regulators Stable with Ceramic Output Capacitors, 6-pin LLP, Pb-Free, 1000 Reel; PartNumber: LP38693SD-1.8/NOPB; Manufacturer: National Semiconductor; PackageTopMarking: ZXYTT*L128B; PowerWise: Y; CompType: LDO IC; DatasheetVersion: Jun-2011; PackageVersion: revA, Jul-2003; PackageReference: SDE06A; PackageDescription: LLP, Plastic, Dual, 3 x 3 x 0.8mm Body, 6 Lead, 0.95mm Pitch, No Pullback; RoHS: Y; PinCount: 6; High-Reliability: Y; ComponentLink1Description: Manufacturer URL; ComponentLink1URL: http://www.national.com/; ComponentLink2Description: LP38693 Datasheet; ComponentLink2URL: http://www.national.com/ds/LP/LP38691.pdf; ComponentLink3Description: LP38693 Web Page; ComponentLink3URL: http://www.national.com/pf/LP/LP38693.html; ComponentLink4Description: SDE06A Package Page; ComponentLink4URL: http://www.national.com/packaging/folders/sde06a.html
footprint SDE06A_full (SON, 6-Leads, Body 3x3 mm, Pitch 0.95mm, Full Paste, NSC Recommended)
footprint SDE06A_quad (SON, 6-Leads, Body 3x3 mm, Pitch 0.95mm, Quad Paste, NSC Recommended)
pins: 1 IN (power), 2 GND (power), 3 EN (in), 4 OUT (power), 5 SNS (out), 6 IN (power), 7 DAP (power)

## LP38693SD-2.5
designator U?
500mA Low Dropout CMOS Linear Regulators, 6-pin LLP, 1000 Reel; PartNumber: LP38693SD-2.5; Manufacturer: National Semiconductor; PackageTopMarking: ZXYTT*L129B; PowerWise: Y; CompType: LDO IC; DatasheetVersion: Jun-2011; PackageVersion: revA, Jul-2003; PackageReference: SDE06A; PackageDescription: LLP, Plastic, Dual, 3 x 3 x 0.8mm Body, 6 Lead, 0.95mm Pitch, No Pullback; RoHS: N; PinCount: 6; High-Reliability: Y; ComponentLink1Description: Manufacturer URL; ComponentLink1URL: http://www.national.com/; ComponentLink2Description: LP38693 Datasheet; ComponentLink2URL: http://www.national.com/ds/LP/LP38691.pdf; ComponentLink3Description: LP38693 Web Page; ComponentLink3URL: http://www.national.com/pf/LP/LP38693.html; ComponentLink4Description: SDE06A Package Page; ComponentLink4URL: http://www.national.com/packaging/folders/sde06a.html
footprint SDE06A_full (SON, 6-Leads, Body 3x3 mm, Pitch 0.95mm, Full Paste, NSC Recommended)
footprint SDE06A_quad (SON, 6-Leads, Body 3x3 mm, Pitch 0.95mm, Quad Paste, NSC Recommended)
pins: 1 IN (power), 2 GND (power), 3 EN (in), 4 OUT (power), 5 SNS (out), 6 IN (power), 7 DAP (power)

## LP38693SD-2.5/NOPB
designator U?
500mA Low Dropout CMOS Linear Regulators Stable with Ceramic Output Capacitors, 6-pin LLP, Pb-Free, 1000 Reel; PartNumber: LP38693SD-2.5/NOPB; Manufacturer: National Semiconductor; PackageTopMarking: ZXYTT*L129B; PowerWise: Y; CompType: LDO IC; DatasheetVersion: Jun-2011; PackageVersion: revA, Jul-2003; PackageReference: SDE06A; PackageDescription: LLP, Plastic, Dual, 3 x 3 x 0.8mm Body, 6 Lead, 0.95mm Pitch, No Pullback; RoHS: Y; PinCount: 6; High-Reliability: Y; ComponentLink1Description: Manufacturer URL; ComponentLink1URL: http://www.national.com/; ComponentLink2Description: LP38693 Datasheet; ComponentLink2URL: http://www.national.com/ds/LP/LP38691.pdf; ComponentLink3Description: LP38693 Web Page; ComponentLink3URL: http://www.national.com/pf/LP/LP38693.html; ComponentLink4Description: SDE06A Package Page; ComponentLink4URL: http://www.national.com/packaging/folders/sde06a.html
footprint SDE06A_full (SON, 6-Leads, Body 3x3 mm, Pitch 0.95mm, Full Paste, NSC Recommended)
footprint SDE06A_quad (SON, 6-Leads, Body 3x3 mm, Pitch 0.95mm, Quad Paste, NSC Recommended)
pins: 1 IN (power), 2 GND (power), 3 EN (in), 4 OUT (power), 5 SNS (out), 6 IN (power), 7 DAP (power)

## LP38693SD-3.3
designator U?
500mA Low Dropout CMOS Linear Regulators, 6-pin LLP, 1000 Reel; PartNumber: LP38693SD-3.3; Manufacturer: National Semiconductor; PackageTopMarking: ZXYTT*L130B; PowerWise: Y; CompType: LDO IC; DatasheetVersion: Jun-2011; PackageVersion: revA, Jul-2003; PackageReference: SDE06A; PackageDescription: LLP, Plastic, Dual, 3 x 3 x 0.8mm Body, 6 Lead, 0.95mm Pitch, No Pullback; RoHS: N; PinCount: 6; High-Reliability: Y; ComponentLink1Description: Manufacturer URL; ComponentLink1URL: http://www.national.com/; ComponentLink2Description: LP38693 Datasheet; ComponentLink2URL: http://www.national.com/ds/LP/LP38691.pdf; ComponentLink3Description: LP38693 Web Page; ComponentLink3URL: http://www.national.com/pf/LP/LP38693.html; ComponentLink4Description: SDE06A Package Page; ComponentLink4URL: http://www.national.com/packaging/folders/sde06a.html
footprint SDE06A_full (SON, 6-Leads, Body 3x3 mm, Pitch 0.95mm, Full Paste, NSC Recommended)
footprint SDE06A_quad (SON, 6-Leads, Body 3x3 mm, Pitch 0.95mm, Quad Paste, NSC Recommended)
pins: 1 IN (power), 2 GND (power), 3 EN (in), 4 OUT (power), 5 SNS (out), 6 IN (power), 7 DAP (power)

## LP38693SD-3.3/NOPB
designator U?
500mA Low Dropout CMOS Linear Regulators Stable with Ceramic Output Capacitors, 6-pin LLP, Pb-Free, 1000 Reel; PartNumber: LP38693SD-3.3/NOPB; Manufacturer: National Semiconductor; PackageTopMarking: ZXYTT*L130B; PowerWise: Y; CompType: LDO IC; DatasheetVersion: Jun-2011; PackageVersion: revA, Jul-2003; PackageReference: SDE06A; PackageDescription: LLP, Plastic, Dual, 3 x 3 x 0.8mm Body, 6 Lead, 0.95mm Pitch, No Pullback; RoHS: Y; PinCount: 6; High-Reliability: Y; ComponentLink1Description: Manufacturer URL; ComponentLink1URL: http://www.national.com/; ComponentLink2Description: LP38693 Datasheet; ComponentLink2URL: http://www.national.com/ds/LP/LP38691.pdf; ComponentLink3Description: LP38693 Web Page; ComponentLink3URL: http://www.national.com/pf/LP/LP38693.html; ComponentLink4Description: SDE06A Package Page; ComponentLink4URL: http://www.national.com/packaging/folders/sde06a.html
footprint SDE06A_full (SON, 6-Leads, Body 3x3 mm, Pitch 0.95mm, Full Paste, NSC Recommended)
footprint SDE06A_quad (SON, 6-Leads, Body 3x3 mm, Pitch 0.95mm, Quad Paste, NSC Recommended)
pins: 1 IN (power), 2 GND (power), 3 EN (in), 4 OUT (power), 5 SNS (out), 6 IN (power), 7 DAP (power)

## LP38693SD-5.0
designator U?
500mA Low Dropout CMOS Linear Regulators, 6-pin LLP, 1000 Reel; PartNumber: LP38693SD-5.0; Manufacturer: National Semiconductor; PackageTopMarking: ZXYTT*L131B; PowerWise: Y; CompType: LDO IC; DatasheetVersion: Jun-2011; PackageVersion: revA, Jul-2003; PackageReference: SDE06A; PackageDescription: LLP, Plastic, Dual, 3 x 3 x 0.8mm Body, 6 Lead, 0.95mm Pitch, No Pullback; RoHS: N; PinCount: 6; High-Reliability: Y; ComponentLink1Description: Manufacturer URL; ComponentLink1URL: http://www.national.com/; ComponentLink2Description: LP38693 Datasheet; ComponentLink2URL: http://www.national.com/ds/LP/LP38691.pdf; ComponentLink3Description: LP38693 Web Page; ComponentLink3URL: http://www.national.com/pf/LP/LP38693.html; ComponentLink4Description: SDE06A Package Page; ComponentLink4URL: http://www.national.com/packaging/folders/sde06a.html
footprint SDE06A_full (SON, 6-Leads, Body 3x3 mm, Pitch 0.95mm, Full Paste, NSC Recommended)
footprint SDE06A_quad (SON, 6-Leads, Body 3x3 mm, Pitch 0.95mm, Quad Paste, NSC Recommended)
pins: 1 IN (power), 2 GND (power), 3 EN (in), 4 OUT (power), 5 SNS (out), 6 IN (power), 7 DAP (power)

## LP38693SD-5.0/NOPB
designator U?
500mA Low Dropout CMOS Linear Regulators Stable with Ceramic Output Capacitors, 6-pin LLP, Pb-Free, 1000 Reel; PartNumber: LP38693SD-5.0/NOPB; Manufacturer: National Semiconductor; PackageTopMarking: ZXYTT*L131B; PowerWise: Y; CompType: LDO IC; DatasheetVersion: Jun-2011; PackageVersion: revA, Jul-2003; PackageReference: SDE06A; PackageDescription: LLP, Plastic, Dual, 3 x 3 x 0.8mm Body, 6 Lead, 0.95mm Pitch, No Pullback; RoHS: Y; PinCount: 6; High-Reliability: Y; ComponentLink1Description: Manufacturer URL; ComponentLink1URL: http://www.national.com/; ComponentLink2Description: LP38693 Datasheet; ComponentLink2URL: http://www.national.com/ds/LP/LP38691.pdf; ComponentLink3Description: LP38693 Web Page; ComponentLink3URL: http://www.national.com/pf/LP/LP38693.html; ComponentLink4Description: SDE06A Package Page; ComponentLink4URL: http://www.national.com/packaging/folders/sde06a.html
footprint SDE06A_full (SON, 6-Leads, Body 3x3 mm, Pitch 0.95mm, Full Paste, NSC Recommended)
footprint SDE06A_quad (SON, 6-Leads, Body 3x3 mm, Pitch 0.95mm, Quad Paste, NSC Recommended)
pins: 1 IN (power), 2 GND (power), 3 EN (in), 4 OUT (power), 5 SNS (out), 6 IN (power), 7 DAP (power)

## LP38693SD-ADJ
designator U?
500mA Low Dropout CMOS Linear Regulators, 6-pin LLP, 1000 Reel; PartNumber: LP38693SD-ADJ; Manufacturer: National Semiconductor; PackageTopMarking: ZXYTT*L127B; PowerWise: Y; CompType: LDO IC; DatasheetVersion: Jun-2011; PackageVersion: revA, Jul-2003; PackageReference: SDE06A; PackageDescription: LLP, Plastic, Dual, 3 x 3 x 0.8mm Body, 6 Lead, 0.95mm Pitch, No Pullback; RoHS: N; PinCount: 6; High-Reliability: Y; ComponentLink1Description: Manufacturer URL; ComponentLink1URL: http://www.national.com/; ComponentLink2Description: LP38693 Datasheet; ComponentLink2URL: http://www.national.com/ds/LP/LP38691-ADJ.pdf; ComponentLink3Description: LP38693 Web Page; ComponentLink3URL: http://www.national.com/pf/LP/LP38693.html; ComponentLink4Description: SDE06A Package Page; ComponentLink4URL: http://www.national.com/packaging/folders/sde06a.html
footprint SDE06A_full (SON, 6-Leads, Body 3x3 mm, Pitch 0.95mm, Full Paste, NSC Recommended)
footprint SDE06A_quad (SON, 6-Leads, Body 3x3 mm, Pitch 0.95mm, Quad Paste, NSC Recommended)
pins: 1 IN (power), 2 GND (power), 3 EN (in), 4 ADJ, 5 OUT (power), 6 IN (power), 7 DAP (power)

## LP38693SD-ADJ/NOPB
designator U?
500mA Low Dropout CMOS Linear Regulators with Adjustable Output Stable with Ceramic Output Capacitors, 6-pin LLP, Pb-Free, 1000 Reel; PartNumber: LP38693SD-ADJ/NOPB; Manufacturer: National Semiconductor; PackageTopMarking: ZXYTT*L127B; PowerWise: Y; CompType: LDO IC; DatasheetVersion: Jun-2011; PackageVersion: revA, Jul-2003; PackageReference: SDE06A; PackageDescription: LLP, Plastic, Dual, 3 x 3 x 0.8mm Body, 6 Lead, 0.95mm Pitch, No Pullback; RoHS: Y; PinCount: 6; High-Reliability: Y; ComponentLink1Description: Manufacturer URL; ComponentLink1URL: http://www.national.com/; ComponentLink2Description: LP38693 Datasheet; ComponentLink2URL: http://www.national.com/ds/LP/LP38691-ADJ.pdf; ComponentLink3Description: LP38693 Web Page; ComponentLink3URL: http://www.national.com/pf/LP/LP38693.html; ComponentLink4Description: SDE06A Package Page; ComponentLink4URL: http://www.national.com/packaging/folders/sde06a.html
footprint SDE06A_full (SON, 6-Leads, Body 3x3 mm, Pitch 0.95mm, Full Paste, NSC Recommended)
footprint SDE06A_quad (SON, 6-Leads, Body 3x3 mm, Pitch 0.95mm, Quad Paste, NSC Recommended)
pins: 1 IN (power), 2 GND (power), 3 EN (in), 4 ADJ, 5 OUT (power), 6 IN (power), 7 DAP (power)

## LP38693SDX-1.8
designator U?
500mA Low Dropout CMOS Linear Regulators Stable with Ceramic Output Capacitors, 6-pin LLP, 4500 Reel; PartNumber: LP38693SDX-1.8; Manufacturer: National Semiconductor; PackageTopMarking: ZXYTT*L128B; PowerWise: Y; CompType: LDO IC; DatasheetVersion: Jun-2011; PackageVersion: revA, Jul-2003; PackageReference: SDE06A; PackageDescription: LLP, Plastic, Dual, 3 x 3 x 0.8mm Body, 6 Lead, 0.95mm Pitch, No Pullback; RoHS: N; PinCount: 6; High-Reliability: Y; ComponentLink1Description: Manufacturer URL; ComponentLink1URL: http://www.national.com/; ComponentLink2Description: LP38693 Datasheet; ComponentLink2URL: http://www.national.com/ds/LP/LP38691.pdf; ComponentLink3Description: LP38693 Web Page; ComponentLink3URL: http://www.national.com/pf/LP/LP38693.html; ComponentLink4Description: SDE06A Package Page; ComponentLink4URL: http://www.national.com/packaging/folders/sde06a.html
footprint SDE06A_full (SON, 6-Leads, Body 3x3 mm, Pitch 0.95mm, Full Paste, NSC Recommended)
footprint SDE06A_quad (SON, 6-Leads, Body 3x3 mm, Pitch 0.95mm, Quad Paste, NSC Recommended)
pins: 1 IN (power), 2 GND (power), 3 EN (in), 4 OUT (power), 5 SNS (out), 6 IN (power), 7 DAP (power)

## LP38693SDX-1.8/NOPB
designator U?
500mA Low Dropout CMOS Linear Regulators Stable with Ceramic Output Capacitors, 6-pin LLP, 4500 Reel; PartNumber: LP38693SDX-1.8/NOPB; Manufacturer: National Semiconductor; PowerWise: Y; CompType: LDO IC; DatasheetVersion: Jun-2011; PackageVersion: revA, Jul-2003; PackageReference: SDE06A; PackageDescription: LLP, Plastic, Dual, 3 x 3 x 0.8mm Body, 6 Lead, 0.95mm Pitch, No Pullback; RoHS: Y; PinCount: 6; High-Reliability: Y; ComponentLink1Description: Manufacturer URL; ComponentLink1URL: http://www.national.com/; ComponentLink2Description: LP38693 Datasheet; ComponentLink2URL: http://www.national.com/ds/LP/LP38691.pdf; ComponentLink3Description: LP38693 Web Page; ComponentLink3URL: http://www.national.com/pf/LP/LP38693.html; ComponentLink4Description: SDE06A Package Page; ComponentLink4URL: http://www.national.com/packaging/folders/sde06a.html
footprint SDE06A_full (SON, 6-Leads, Body 3x3 mm, Pitch 0.95mm, Full Paste, NSC Recommended)
footprint SDE06A_quad (SON, 6-Leads, Body 3x3 mm, Pitch 0.95mm, Quad Paste, NSC Recommended)
pins: 1 IN (power), 2 GND (power), 3 EN (in), 4 OUT (power), 5 SNS (out), 6 IN (power), 7 DAP (power)

## LP38693SDX-2.5
designator U?
500mA Low Dropout CMOS Linear Regulators Stable with Ceramic Output Capacitors, 6-pin LLP, 4500 Reel; PartNumber: LP38693SDX-2.5; Manufacturer: National Semiconductor; PackageTopMarking: ZXYTT*L129B; PowerWise: Y; CompType: LDO IC; DatasheetVersion: Jun-2011; PackageVersion: revA, Jul-2003; PackageReference: SDE06A; PackageDescription: LLP, Plastic, Dual, 3 x 3 x 0.8mm Body, 6 Lead, 0.95mm Pitch, No Pullback; RoHS: N; PinCount: 6; High-Reliability: Y; ComponentLink1Description: Manufacturer URL; ComponentLink1URL: http://www.national.com/; ComponentLink2Description: LP38693 Datasheet; ComponentLink2URL: http://www.national.com/ds/LP/LP38691.pdf; ComponentLink3Description: LP38693 Web Page; ComponentLink3URL: http://www.national.com/pf/LP/LP38693.html; ComponentLink4Description: SDE06A Package Page; ComponentLink4URL: http://www.national.com/packaging/folders/sde06a.html
footprint SDE06A_full (SON, 6-Leads, Body 3x3 mm, Pitch 0.95mm, Full Paste, NSC Recommended)
footprint SDE06A_quad (SON, 6-Leads, Body 3x3 mm, Pitch 0.95mm, Quad Paste, NSC Recommended)
pins: 1 IN (power), 2 GND (power), 3 EN (in), 4 OUT (power), 5 SNS (out), 6 IN (power), 7 DAP (power)

## LP38693SDX-2.5/NOPB
designator U?
500mA Low Dropout CMOS Linear Regulators Stable with Ceramic Output Capacitors, 6-pin LLP, 4500 Reel; PartNumber: LP38693SDX-2.5/NOPB; Manufacturer: National Semiconductor; PowerWise: Y; CompType: LDO IC; DatasheetVersion: Jun-2011; PackageVersion: revA, Jul-2003; PackageReference: SDE06A; PackageDescription: LLP, Plastic, Dual, 3 x 3 x 0.8mm Body, 6 Lead, 0.95mm Pitch, No Pullback; RoHS: Y; PinCount: 6; High-Reliability: Y; ComponentLink1Description: Manufacturer URL; ComponentLink1URL: http://www.national.com/; ComponentLink2Description: LP38693 Datasheet; ComponentLink2URL: http://www.national.com/ds/LP/LP38691.pdf; ComponentLink3Description: LP38693 Web Page; ComponentLink3URL: http://www.national.com/pf/LP/LP38693.html; ComponentLink4Description: SDE06A Package Page; ComponentLink4URL: http://www.national.com/packaging/folders/sde06a.html
footprint SDE06A_full (SON, 6-Leads, Body 3x3 mm, Pitch 0.95mm, Full Paste, NSC Recommended)
footprint SDE06A_quad (SON, 6-Leads, Body 3x3 mm, Pitch 0.95mm, Quad Paste, NSC Recommended)
pins: 1 IN (power), 2 GND (power), 3 EN (in), 4 OUT (power), 5 SNS (out), 6 IN (power), 7 DAP (power)

## LP38693SDX-3.3
designator U?
500mA Low Dropout CMOS Linear Regulators Stable with Ceramic Output Capacitors, 6-pin LLP, 4500 Reel; PartNumber: LP38693SDX-3.3; Manufacturer: National Semiconductor; PackageTopMarking: ZXYTT*L130B; PowerWise: Y; CompType: LDO IC; DatasheetVersion: Jun-2011; PackageVersion: revA, Jul-2003; PackageReference: SDE06A; PackageDescription: LLP, Plastic, Dual, 3 x 3 x 0.8mm Body, 6 Lead, 0.95mm Pitch, No Pullback; RoHS: N; PinCount: 6; High-Reliability: Y; ComponentLink1Description: Manufacturer URL; ComponentLink1URL: http://www.national.com/; ComponentLink2Description: LP38693 Datasheet; ComponentLink2URL: http://www.national.com/ds/LP/LP38691.pdf; ComponentLink3Description: LP38693 Web Page; ComponentLink3URL: http://www.national.com/pf/LP/LP38693.html; ComponentLink4Description: SDE06A Package Page; ComponentLink4URL: http://www.national.com/packaging/folders/sde06a.html
footprint SDE06A_full (SON, 6-Leads, Body 3x3 mm, Pitch 0.95mm, Full Paste, NSC Recommended)
footprint SDE06A_quad (SON, 6-Leads, Body 3x3 mm, Pitch 0.95mm, Quad Paste, NSC Recommended)
pins: 1 IN (power), 2 GND (power), 3 EN (in), 4 OUT (power), 5 SNS (out), 6 IN (power), 7 DAP (power)

## LP38693SDX-3.3/NOPB
designator U?
500mA Low Dropout CMOS Linear Regulators Stable with Ceramic Output Capacitors, 6-pin LLP, 4500 Reel; PartNumber: LP38693SDX-3.3/NOPB; Manufacturer: National Semiconductor; PowerWise: Y; CompType: LDO IC; DatasheetVersion: Jun-2011; PackageVersion: revA, Jul-2003; PackageReference: SDE06A; PackageDescription: LLP, Plastic, Dual, 3 x 3 x 0.8mm Body, 6 Lead, 0.95mm Pitch, No Pullback; RoHS: Y; PinCount: 6; High-Reliability: Y; ComponentLink1Description: Manufacturer URL; ComponentLink1URL: http://www.national.com/; ComponentLink2Description: LP38693 Datasheet; ComponentLink2URL: http://www.national.com/ds/LP/LP38691.pdf; ComponentLink3Description: LP38693 Web Page; ComponentLink3URL: http://www.national.com/pf/LP/LP38693.html; ComponentLink4Description: SDE06A Package Page; ComponentLink4URL: http://www.national.com/packaging/folders/sde06a.html
footprint SDE06A_full (SON, 6-Leads, Body 3x3 mm, Pitch 0.95mm, Full Paste, NSC Recommended)
footprint SDE06A_quad (SON, 6-Leads, Body 3x3 mm, Pitch 0.95mm, Quad Paste, NSC Recommended)
pins: 1 IN (power), 2 GND (power), 3 EN (in), 4 OUT (power), 5 SNS (out), 6 IN (power), 7 DAP (power)

## LP38693SDX-5.0
designator U?
500mA Low Dropout CMOS Linear Regulators Stable with Ceramic Output Capacitors, 6-pin LLP, 4500 Reel; PartNumber: LP38693SDX-5.0; Manufacturer: National Semiconductor; PackageTopMarking: ZXYTT*L131B; PowerWise: Y; CompType: LDO IC; DatasheetVersion: Jun-2011; PackageVersion: revA, Jul-2003; PackageReference: SDE06A; PackageDescription: LLP, Plastic, Dual, 3 x 3 x 0.8mm Body, 6 Lead, 0.95mm Pitch, No Pullback; RoHS: N; PinCount: 6; High-Reliability: Y; ComponentLink1Description: Manufacturer URL; ComponentLink1URL: http://www.national.com/; ComponentLink2Description: LP38693 Datasheet; ComponentLink2URL: http://www.national.com/ds/LP/LP38691.pdf; ComponentLink3Description: LP38693 Web Page; ComponentLink3URL: http://www.national.com/pf/LP/LP38693.html; ComponentLink4Description: SDE06A Package Page; ComponentLink4URL: http://www.national.com/packaging/folders/sde06a.html
footprint SDE06A_full (SON, 6-Leads, Body 3x3 mm, Pitch 0.95mm, Full Paste, NSC Recommended)
footprint SDE06A_quad (SON, 6-Leads, Body 3x3 mm, Pitch 0.95mm, Quad Paste, NSC Recommended)
pins: 1 IN (power), 2 GND (power), 3 EN (in), 4 OUT (power), 5 SNS (out), 6 IN (power), 7 DAP (power)

## LP38693SDX-5.0/NOPB
designator U?
500mA Low Dropout CMOS Linear Regulators Stable with Ceramic Output Capacitors, 6-pin LLP, 4500 Reel; PartNumber: LP38693SDX-5.0/NOPB; Manufacturer: National Semiconductor; PowerWise: Y; CompType: LDO IC; DatasheetVersion: Jun-2011; PackageVersion: revA, Jul-2003; PackageReference: SDE06A; PackageDescription: LLP, Plastic, Dual, 3 x 3 x 0.8mm Body, 6 Lead, 0.95mm Pitch, No Pullback; RoHS: Y; PinCount: 6; High-Reliability: Y; ComponentLink1Description: Manufacturer URL; ComponentLink1URL: http://www.national.com/; ComponentLink2Description: LP38693 Datasheet; ComponentLink2URL: http://www.national.com/ds/LP/LP38691.pdf; ComponentLink3Description: LP38693 Web Page; ComponentLink3URL: http://www.national.com/pf/LP/LP38693.html; ComponentLink4Description: SDE06A Package Page; ComponentLink4URL: http://www.national.com/packaging/folders/sde06a.html
footprint SDE06A_full (SON, 6-Leads, Body 3x3 mm, Pitch 0.95mm, Full Paste, NSC Recommended)
footprint SDE06A_quad (SON, 6-Leads, Body 3x3 mm, Pitch 0.95mm, Quad Paste, NSC Recommended)
pins: 1 IN (power), 2 GND (power), 3 EN (in), 4 OUT (power), 5 SNS (out), 6 IN (power), 7 DAP (power)

## LP38693SDX-ADJ
designator U?
500mA Low Dropout CMOS Linear Regulators with Adjustable Output Stable with Ceramic Output Capacitors, 6-pin LLP, 4500 Reel; PartNumber: LP38693SDX-ADJ; Manufacturer: National Semiconductor; PackageTopMarking: ZXYTT*L127B; PowerWise: Y; CompType: LDO IC; DatasheetVersion: Jun-2011; PackageVersion: revA, Jul-2003; PackageReference: SDE06A; PackageDescription: LLP, Plastic, Dual, 3 x 3 x 0.8mm Body, 6 Lead, 0.95mm Pitch, No Pullback; RoHS: N; PinCount: 6; High-Reliability: Y; ComponentLink1Description: Manufacturer URL; ComponentLink1URL: http://www.national.com/; ComponentLink2Description: LP38693 Datasheet; ComponentLink2URL: http://www.national.com/ds/LP/LP38691-ADJ.pdf; ComponentLink3Description: LP38693 Web Page; ComponentLink3URL: http://www.national.com/pf/LP/LP38693.html; ComponentLink4Description: SDE06A Package Page; ComponentLink4URL: http://www.national.com/packaging/folders/sde06a.html
footprint SDE06A_full (SON, 6-Leads, Body 3x3 mm, Pitch 0.95mm, Full Paste, NSC Recommended)
footprint SDE06A_quad (SON, 6-Leads, Body 3x3 mm, Pitch 0.95mm, Quad Paste, NSC Recommended)
pins: 1 IN (power), 2 GND (power), 3 EN (in), 4 ADJ, 5 OUT (power), 6 IN (power), 7 DAP (power)

## LP38693SDX-ADJ/NOPB
designator U?
500mA Low Dropout CMOS Linear Regulators with Adjustable Output Stable with Ceramic Output Capacitors, 6-pin LLP, 4500 Reel; PartNumber: LP38693SDX-ADJ/NOPB; Manufacturer: National Semiconductor; PowerWise: Y; CompType: LDO IC; DatasheetVersion: Jun-2011; PackageVersion: revA, Jul-2003; PackageReference: SDE06A; PackageDescription: LLP, Plastic, Dual, 3 x 3 x 0.8mm Body, 6 Lead, 0.95mm Pitch, No Pullback; RoHS: Y; PinCount: 6; High-Reliability: Y; ComponentLink1Description: Manufacturer URL; ComponentLink1URL: http://www.national.com/; ComponentLink2Description: LP38693 Datasheet; ComponentLink2URL: http://www.national.com/ds/LP/LP38691-ADJ.pdf; ComponentLink3Description: LP38693 Web Page; ComponentLink3URL: http://www.national.com/pf/LP/LP38693.html; ComponentLink4Description: SDE06A Package Page; ComponentLink4URL: http://www.national.com/packaging/folders/sde06a.html
footprint SDE06A_full (SON, 6-Leads, Body 3x3 mm, Pitch 0.95mm, Full Paste, NSC Recommended)
footprint SDE06A_quad (SON, 6-Leads, Body 3x3 mm, Pitch 0.95mm, Quad Paste, NSC Recommended)
pins: 1 IN (power), 2 GND (power), 3 EN (in), 4 ADJ, 5 OUT (power), 6 IN (power), 7 DAP (power)